# EAGLE library part L9686 (library st-microelectronics)
The L9686 is a two frequency oscillator particularly suitable as relay driver for flashing light control in automotive applications. The circuit may be also used for other warning lamps like ”handbrake on” etc. The lamp failure detection is given by doubling the flash repetition frequency. The L9686 is supplied in minidip 8-lead and SO8 plastic packages.
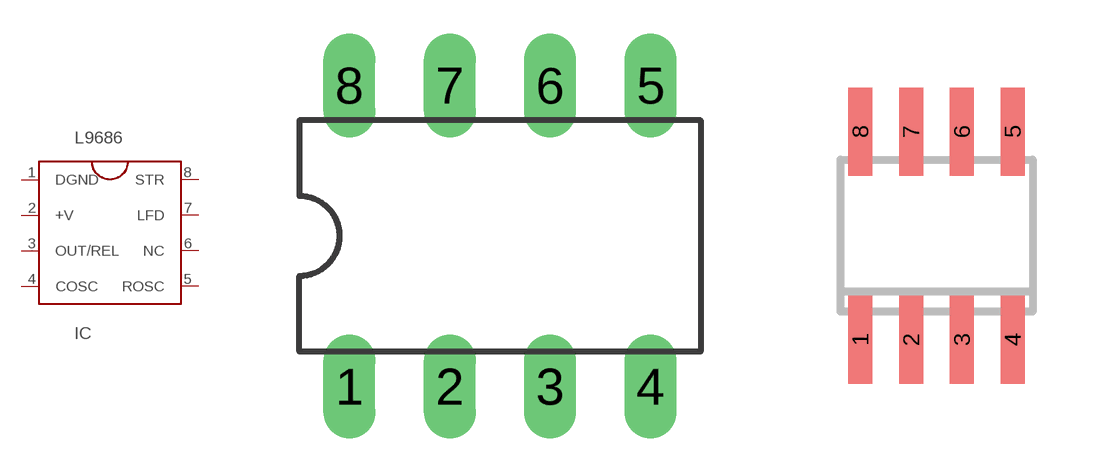
[diagram p53: symbol with the pads of DIL-08; footprints DIL-08, SO08]

Designator prefix IC

## L9686  [DIL-08]
1  DGND  pwr
2  +V  pwr
3  OUT/REL  out
4  COSC
5  ROSC
6  NC  nc
7  LFD  out
8  STR  in

## L9686SO8  [SO08]
Pads as for DIL-08

## Footprint DIL-08 (pad centres in mm)
Dual In Line Package
drill 0.813 long: 1 -3.81,-3.81; 2 -1.27,-3.81; 3 1.27,-3.81; 4 3.81,-3.81; 5 3.81,3.81; 6 1.27,3.81; 7 -1.27,3.81; 8 -3.81,3.81

## Footprint SO08 (pad centres in mm)
SMALL OUTLINE INTEGRATED CIRCUIT body 3.9 mm/JEDEC MS-012AA
smd 0.6 x 2.2: 1 -1.905,-2.6; 2 -0.635,-2.6; 3 0.635,-2.6; 4 1.905,-2.6; 5 1.905,2.6; 6 0.635,2.6; 7 -0.635,2.6; 8 -1.905,2.6